# Altium footprint library Tranzistor.PcbLib: 241 footprints (part 8 of 16)
Each footprint in its own frame and in the unit in brackets; x right, y up, seen from the top. Pads: shape width x height; smd on the part's side, far side on the other; paste and mask are expansions set on the pad; w line width, h text height; cw(c..) or ccw(c..) is an arc to the next point about the centre after c.
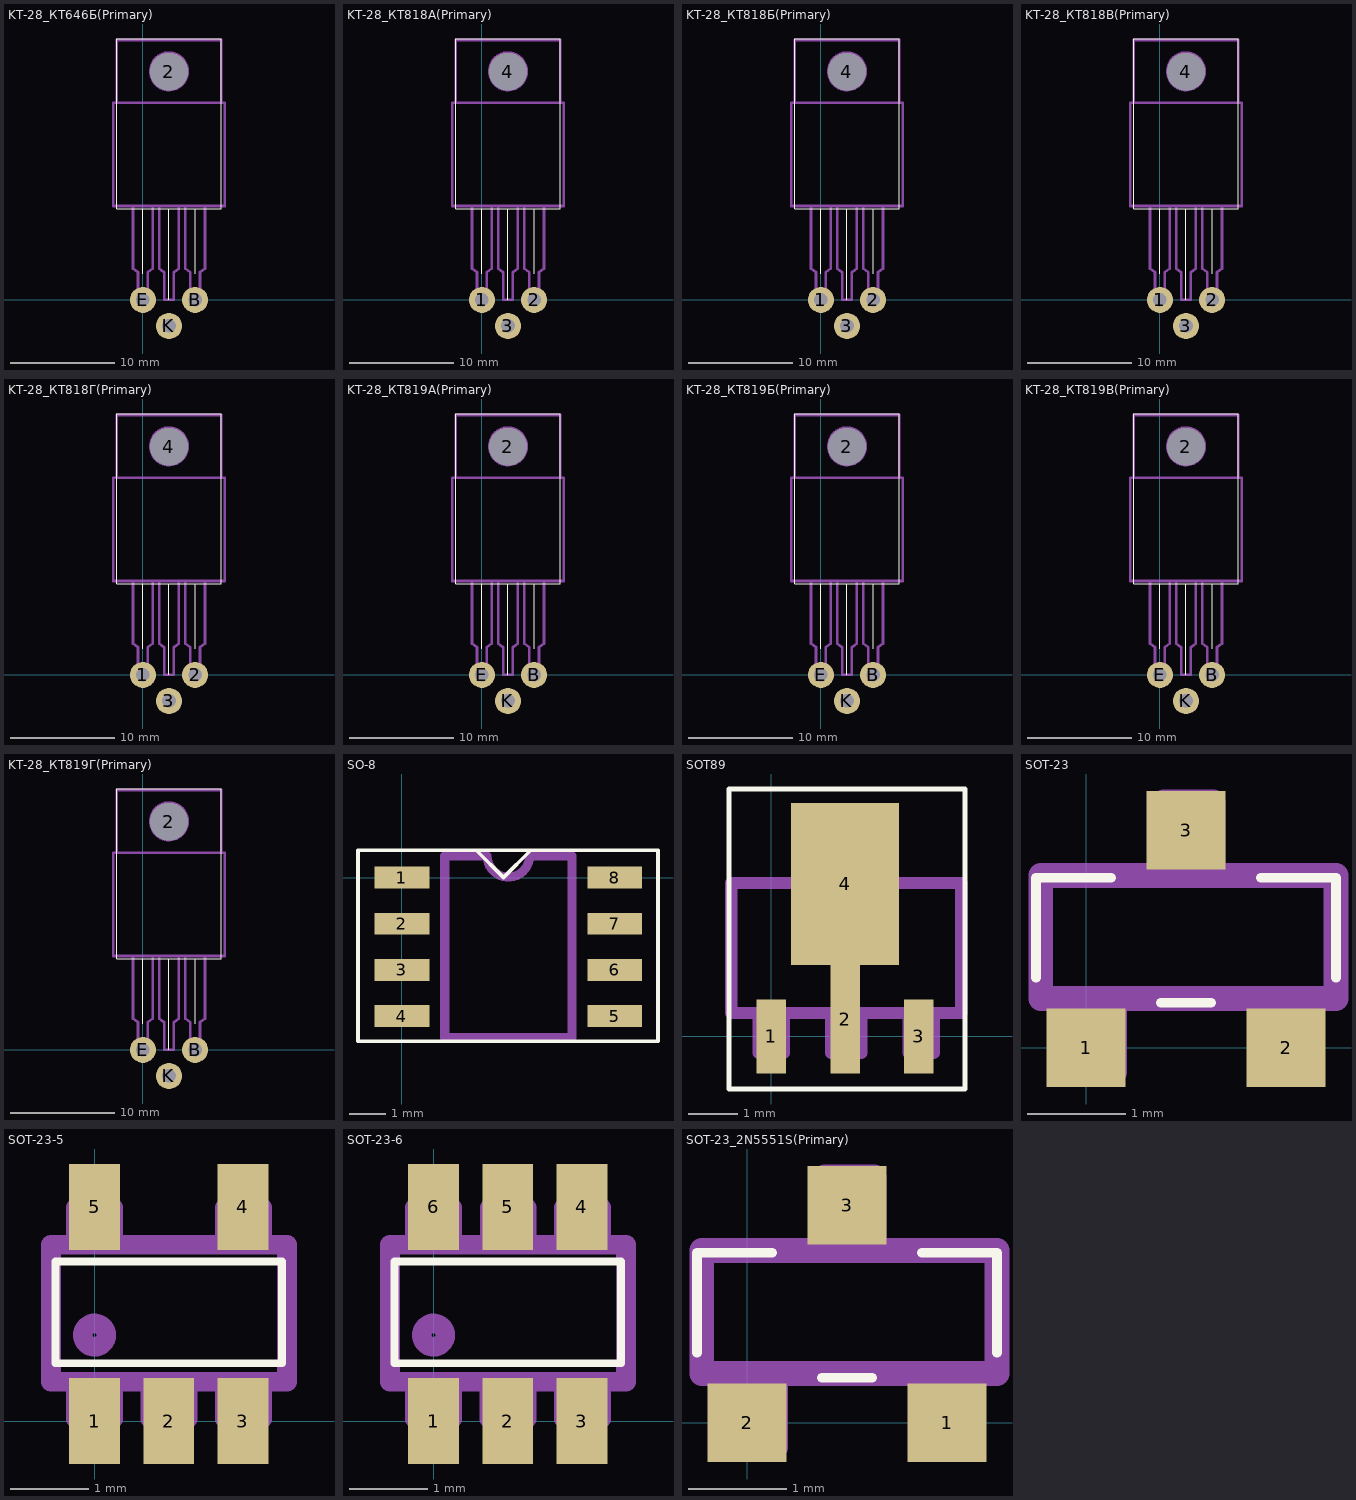
[diagram p7: the footprints below, top view; thin cyan lines are the x and y axes]

## KT-28_КТ646Б(Primary) [mm]
pads (4):
  round 3.6 hole 3.6 unplated: 2(2.5,21.875)
  round 2.5 hole 1.3: B(5,0) E(0,0) K(2.5,-2.5)
Top Overlay:
  lines w0.1: 0,2.5 0,8.75 ; 2.5,0 2.5,8.75 ; 5,2.5 5,8.75 ; -2.5,8.75 7.5,8.75 7.5,25 -2.5,25 -2.5,8.75
Mechanical 1:
  circle w0.25: c2.5,21.9 r1.8
  lines w0.25: -0.95,9 -0.95,3 -0.47,2.651 -0.47,0 0,0 0.47,0 0.47,2.651 0.95,3 0.95,9 ; 1.55,9 1.55,3 2.03,2.651 2.03,0 2.5,0 2.97,0 2.97,2.651 3.45,3 3.45,9 ; 4.05,9 4.05,3 4.53,2.651 4.53,0 5,0 5.47,0 5.47,2.651 5.95,3 5.95,9 ; -2.5,18.9 7.5,18.9 ; -2.5,18.9 -2.5,24.9 2.5,24.9 7.5,24.9 7.5,18.9 ; -2.5,18.9 -2.85,18.9 -2.85,9 2.5,9 7.85,9 7.85,18.9 7.5,18.9
  text "К" at 2.25,9.25 h1.5
  text "Б" at 4.75,9.25 h1.5
  text "Э" at -0.5,9.25 h1.5

## KT-28_КТ818А(Primary) [mm]
pads (4):
  round 2.5 hole 1.3: 1(0,0) 2(5,0) 3(2.5,-2.5)
  round 3.6 hole 3.6 unplated: 4(2.5,21.875)
Top Overlay:
  lines w0.1: 0,2.5 0,8.75 ; 2.5,0 2.5,8.75 ; 5,2.5 5,8.75 ; -2.5,8.75 7.5,8.75 7.5,25 -2.5,25 -2.5,8.75
Mechanical 1:
  circle w0.25: c2.5,21.9 r1.8
  lines w0.25: -0.95,9 -0.95,3 -0.47,2.651 -0.47,0 0,0 0.47,0 0.47,2.651 0.95,3 0.95,9 ; 1.55,9 1.55,3 2.03,2.651 2.03,0 2.5,0 2.97,0 2.97,2.651 3.45,3 3.45,9 ; 4.05,9 4.05,3 4.53,2.651 4.53,0 5,0 5.47,0 5.47,2.651 5.95,3 5.95,9 ; -2.5,18.9 7.5,18.9 ; -2.5,18.9 -2.5,24.9 2.5,24.9 7.5,24.9 7.5,18.9 ; -2.5,18.9 -2.85,18.9 -2.85,9 2.5,9 7.85,9 7.85,18.9 7.5,18.9
  text "К" at 2.25,9.25 h1.5
  text "Б" at 4.75,9.25 h1.5
  text "Э" at -0.5,9.25 h1.5

## KT-28_КТ818Б(Primary) [mm]
pads (4):
  round 2.5 hole 1.3: 1(0,0) 2(5,0) 3(2.5,-2.5)
  round 3.6 hole 3.6 unplated: 4(2.5,21.875)
Top Overlay:
  lines w0.1: 0,2.5 0,8.75 ; 2.5,0 2.5,8.75 ; 5,2.5 5,8.75 ; -2.5,8.75 7.5,8.75 7.5,25 -2.5,25 -2.5,8.75
Mechanical 1:
  circle w0.25: c2.5,21.9 r1.8
  lines w0.25: -0.95,9 -0.95,3 -0.47,2.651 -0.47,0 0,0 0.47,0 0.47,2.651 0.95,3 0.95,9 ; 1.55,9 1.55,3 2.03,2.651 2.03,0 2.5,0 2.97,0 2.97,2.651 3.45,3 3.45,9 ; 4.05,9 4.05,3 4.53,2.651 4.53,0 5,0 5.47,0 5.47,2.651 5.95,3 5.95,9 ; -2.5,18.9 7.5,18.9 ; -2.5,18.9 -2.5,24.9 2.5,24.9 7.5,24.9 7.5,18.9 ; -2.5,18.9 -2.85,18.9 -2.85,9 2.5,9 7.85,9 7.85,18.9 7.5,18.9
  text "К" at 2.25,9.25 h1.5
  text "Б" at 4.75,9.25 h1.5
  text "Э" at -0.5,9.25 h1.5

## KT-28_КТ818В(Primary) [mm]
pads (4):
  round 2.5 hole 1.3: 1(0,0) 2(5,0) 3(2.5,-2.5)
  round 3.6 hole 3.6 unplated: 4(2.5,21.875)
Top Overlay:
  lines w0.1: 0,2.5 0,8.75 ; 2.5,0 2.5,8.75 ; 5,2.5 5,8.75 ; -2.5,8.75 7.5,8.75 7.5,25 -2.5,25 -2.5,8.75
Mechanical 1:
  circle w0.25: c2.5,21.9 r1.8
  lines w0.25: -0.95,9 -0.95,3 -0.47,2.651 -0.47,0 0,0 0.47,0 0.47,2.651 0.95,3 0.95,9 ; 1.55,9 1.55,3 2.03,2.651 2.03,0 2.5,0 2.97,0 2.97,2.651 3.45,3 3.45,9 ; 4.05,9 4.05,3 4.53,2.651 4.53,0 5,0 5.47,0 5.47,2.651 5.95,3 5.95,9 ; -2.5,18.9 7.5,18.9 ; -2.5,18.9 -2.5,24.9 2.5,24.9 7.5,24.9 7.5,18.9 ; -2.5,18.9 -2.85,18.9 -2.85,9 2.5,9 7.85,9 7.85,18.9 7.5,18.9
  text "К" at 2.25,9.25 h1.5
  text "Б" at 4.75,9.25 h1.5
  text "Э" at -0.5,9.25 h1.5

## KT-28_КТ818Г(Primary) [mm]
pads (4):
  round 2.5 hole 1.3: 1(0,0) 2(5,0) 3(2.5,-2.5)
  round 3.6 hole 3.6 unplated: 4(2.5,21.875)
Top Overlay:
  lines w0.1: 0,2.5 0,8.75 ; 2.5,0 2.5,8.75 ; 5,2.5 5,8.75 ; -2.5,8.75 7.5,8.75 7.5,25 -2.5,25 -2.5,8.75
Mechanical 1:
  circle w0.25: c2.5,21.9 r1.8
  lines w0.25: -0.95,9 -0.95,3 -0.47,2.651 -0.47,0 0,0 0.47,0 0.47,2.651 0.95,3 0.95,9 ; 1.55,9 1.55,3 2.03,2.651 2.03,0 2.5,0 2.97,0 2.97,2.651 3.45,3 3.45,9 ; 4.05,9 4.05,3 4.53,2.651 4.53,0 5,0 5.47,0 5.47,2.651 5.95,3 5.95,9 ; -2.5,18.9 7.5,18.9 ; -2.5,18.9 -2.5,24.9 2.5,24.9 7.5,24.9 7.5,18.9 ; -2.5,18.9 -2.85,18.9 -2.85,9 2.5,9 7.85,9 7.85,18.9 7.5,18.9
  text "К" at 2.25,9.25 h1.5
  text "Б" at 4.75,9.25 h1.5
  text "Э" at -0.5,9.25 h1.5

## KT-28_КТ819А(Primary) [mm]
pads (4):
  round 3.6 hole 3.6 unplated: 2(2.5,21.875)
  round 2.5 hole 1.3: B(5,0) E(0,0) K(2.5,-2.5)
Top Overlay:
  lines w0.1: 0,2.5 0,8.75 ; 2.5,0 2.5,8.75 ; 5,2.5 5,8.75 ; -2.5,8.75 7.5,8.75 7.5,25 -2.5,25 -2.5,8.75
Mechanical 1:
  circle w0.25: c2.5,21.9 r1.8
  lines w0.25: -0.95,9 -0.95,3 -0.47,2.651 -0.47,0 0,0 0.47,0 0.47,2.651 0.95,3 0.95,9 ; 1.55,9 1.55,3 2.03,2.651 2.03,0 2.5,0 2.97,0 2.97,2.651 3.45,3 3.45,9 ; 4.05,9 4.05,3 4.53,2.651 4.53,0 5,0 5.47,0 5.47,2.651 5.95,3 5.95,9 ; -2.5,18.9 7.5,18.9 ; -2.5,18.9 -2.5,24.9 2.5,24.9 7.5,24.9 7.5,18.9 ; -2.5,18.9 -2.85,18.9 -2.85,9 2.5,9 7.85,9 7.85,18.9 7.5,18.9
  text "К" at 2.25,9.25 h1.5
  text "Б" at 4.75,9.25 h1.5
  text "Э" at -0.5,9.25 h1.5

## KT-28_КТ819Б(Primary) [mm]
pads (4):
  round 3.6 hole 3.6 unplated: 2(2.5,21.875)
  round 2.5 hole 1.3: B(5,0) E(0,0) K(2.5,-2.5)
Top Overlay:
  lines w0.1: 0,2.5 0,8.75 ; 2.5,0 2.5,8.75 ; 5,2.5 5,8.75 ; -2.5,8.75 7.5,8.75 7.5,25 -2.5,25 -2.5,8.75
Mechanical 1:
  circle w0.25: c2.5,21.9 r1.8
  lines w0.25: -0.95,9 -0.95,3 -0.47,2.651 -0.47,0 0,0 0.47,0 0.47,2.651 0.95,3 0.95,9 ; 1.55,9 1.55,3 2.03,2.651 2.03,0 2.5,0 2.97,0 2.97,2.651 3.45,3 3.45,9 ; 4.05,9 4.05,3 4.53,2.651 4.53,0 5,0 5.47,0 5.47,2.651 5.95,3 5.95,9 ; -2.5,18.9 7.5,18.9 ; -2.5,18.9 -2.5,24.9 2.5,24.9 7.5,24.9 7.5,18.9 ; -2.5,18.9 -2.85,18.9 -2.85,9 2.5,9 7.85,9 7.85,18.9 7.5,18.9
  text "К" at 2.25,9.25 h1.5
  text "Б" at 4.75,9.25 h1.5
  text "Э" at -0.5,9.25 h1.5

## KT-28_КТ819В(Primary) [mm]
pads (4):
  round 3.6 hole 3.6 unplated: 2(2.5,21.875)
  round 2.5 hole 1.3: B(5,0) E(0,0) K(2.5,-2.5)
Top Overlay:
  lines w0.1: 0,2.5 0,8.75 ; 2.5,0 2.5,8.75 ; 5,2.5 5,8.75 ; -2.5,8.75 7.5,8.75 7.5,25 -2.5,25 -2.5,8.75
Mechanical 1:
  circle w0.25: c2.5,21.9 r1.8
  lines w0.25: -0.95,9 -0.95,3 -0.47,2.651 -0.47,0 0,0 0.47,0 0.47,2.651 0.95,3 0.95,9 ; 1.55,9 1.55,3 2.03,2.651 2.03,0 2.5,0 2.97,0 2.97,2.651 3.45,3 3.45,9 ; 4.05,9 4.05,3 4.53,2.651 4.53,0 5,0 5.47,0 5.47,2.651 5.95,3 5.95,9 ; -2.5,18.9 7.5,18.9 ; -2.5,18.9 -2.5,24.9 2.5,24.9 7.5,24.9 7.5,18.9 ; -2.5,18.9 -2.85,18.9 -2.85,9 2.5,9 7.85,9 7.85,18.9 7.5,18.9
  text "К" at 2.25,9.25 h1.5
  text "Б" at 4.75,9.25 h1.5
  text "Э" at -0.5,9.25 h1.5

## KT-28_КТ819Г(Primary) [mm]
pads (4):
  round 3.6 hole 3.6 unplated: 2(2.5,21.875)
  round 2.5 hole 1.3: B(5,0) E(0,0) K(2.5,-2.5)
Top Overlay:
  lines w0.1: 0,2.5 0,8.75 ; 2.5,0 2.5,8.75 ; 5,2.5 5,8.75 ; -2.5,8.75 7.5,8.75 7.5,25 -2.5,25 -2.5,8.75
Mechanical 1:
  circle w0.25: c2.5,21.9 r1.8
  lines w0.25: -0.95,9 -0.95,3 -0.47,2.651 -0.47,0 0,0 0.47,0 0.47,2.651 0.95,3 0.95,9 ; 1.55,9 1.55,3 2.03,2.651 2.03,0 2.5,0 2.97,0 2.97,2.651 3.45,3 3.45,9 ; 4.05,9 4.05,3 4.53,2.651 4.53,0 5,0 5.47,0 5.47,2.651 5.95,3 5.95,9 ; -2.5,18.9 7.5,18.9 ; -2.5,18.9 -2.5,24.9 2.5,24.9 7.5,24.9 7.5,18.9 ; -2.5,18.9 -2.85,18.9 -2.85,9 2.5,9 7.85,9 7.85,18.9 7.5,18.9
  text "К" at 2.25,9.25 h1.5
  text "Б" at 4.75,9.25 h1.5
  text "Э" at -0.5,9.25 h1.5

## PCBComponent_1 [mm]

## SO-8 [mm]
pads (8):
  rect 1.5x0.6 smd: 1(0,0) 2(0,-1.27) 3(0,-2.54) 4(0,-3.81) 5(5.85,-3.81) 6(5.85,-2.54) 7(5.85,-1.27) 8(5.85,0)
Top Overlay:
  lines w0.1: 2.04,0.75 2.79,0 3.54,0.75 ; -1.21,-4.5 7.04,-4.5 7.04,0.75 -1.21,0.75 -1.21,-4.5
Mechanical 1:
  lines w0.25: 1.175,-4.405 4.675,-4.405 4.675,0.595 3.508,0.595 cw(c2.925,0.595) 2.342,0.595 1.175,0.595 1.175,-4.405

## SOT89 [mm]
pads (4):
  rect 0.6x1.5 smd: 1(0,0) 3(3,0)
  rect 0.6x2.2 smd: 2(1.5,0.35)
  rect 2.2x3.3 smd: 4(1.5,3.1)
Top Overlay:
  lines w0.1: -0.86,-1.07 3.94,-1.07 3.94,5.03 -0.86,5.03 -0.86,-1.07
Mechanical 1:
  lines w0.25: -0.254,0.476 -0.254,-0.336 0,-0.336 0.254,-0.336 0.254,0.476 ; 0.61,3.118 0.61,3.931 2.438,3.931 2.438,3.118 ; 1.219,0.476 1.219,-0.336 1.524,-0.336 1.829,-0.336 1.829,0.476 ; 2.794,0.476 2.794,-0.336 3.048,-0.336 3.302,-0.336 3.302,0.476 ; -0.813,0.476 3.861,0.476 3.861,3.118 -0.813,3.118 -0.813,0.476

## SOT-23 [mm]
pads (3):
  rect 0.8x0.8 smd: 1(0,0) 2(2.032,0) 3(1.016,2.21)
Top Overlay:
  lines w0.1: -0.508,0.711 -0.508,1.727 0.254,1.727 ; 0.762,0.457 1.27,0.457 ; 1.778,1.727 2.54,1.727 2.54,0.711
Mechanical 1:
  lines w0.25: -0.21,0.5 -0.21,-0.25 0.29,-0.25 0.29,0.5 ; 0.79,1.75 0.79,2.5 1.29,2.5 1.29,1.75 ; 1.79,0.5 1.79,-0.25 2.29,-0.25 2.29,0.5 ; -0.46,0.5 2.54,0.5 2.54,1.75 -0.46,1.75 -0.46,0.5

## SOT-23-5 [mm]
pads (5):
  rect 0.65x1.1 smd: 1(0,0) 2(0.95,0) 3(1.9,0) 4(1.9,2.74) 5(0,2.74)
Top Overlay:
  lines w0.1: -0.5,0.74 2.4,0.74 2.4,2.04 -0.5,2.04 -0.5,0.74
Mechanical 1:
  circle w0.25: c0,1.1 r0.15
  lines w0.25: -0.239,0.505 -0.239,0.028 0.238,0.028 0.238,0.505 ; -0.239,2.254 -0.239,2.731 0.238,2.731 0.238,2.254 ; 0.715,0.505 0.715,0.028 1.192,0.028 1.192,0.505 ; 1.669,0.505 1.669,0.028 2.146,0.028 2.146,0.346 2.146,0.505 ; 1.669,2.254 1.669,2.731 2.146,2.731 2.146,2.254 ; -0.557,0.505 2.464,0.505 2.464,2.254 -0.557,2.254 -0.557,0.505

## SOT-23-6 [mm]
pads (6):
  rect 0.65x1.1 smd: 1(0,0) 2(0.95,0) 3(1.9,0) 4(1.9,2.74) 5(0.95,2.74) 6(0,2.74)
Top Overlay:
  lines w0.1: -0.5,0.74 2.4,0.74 2.4,2.04 -0.5,2.04 -0.5,0.74
Mechanical 1:
  circle w0.25: c0,1.1 r0.15
  lines w0.25: -0.239,0.505 -0.239,0.028 0.238,0.028 0.238,0.505 ; -0.239,2.254 -0.239,2.731 0.238,2.731 0.238,2.254 ; 0.715,0.505 0.715,0.028 1.192,0.028 1.192,0.505 ; 0.719,2.254 0.719,2.731 1.196,2.731 1.196,2.254 ; 1.669,0.505 1.669,0.028 2.146,0.028 2.146,0.346 2.146,0.505 ; 1.669,2.254 1.669,2.731 2.146,2.731 2.146,2.254 ; -0.557,0.505 2.464,0.505 2.464,2.254 -0.557,2.254 -0.557,0.505

## SOT-23_2N5551S(Primary) [mm]
pads (3):
  rect 0.8x0.8 smd: 1(2.032,0) 2(0,0) 3(1.016,2.21)
Top Overlay:
  lines w0.1: -0.508,0.711 -0.508,1.727 0.254,1.727 ; 0.762,0.457 1.27,0.457 ; 1.778,1.727 2.54,1.727 2.54,0.711
Mechanical 1:
  lines w0.25: -0.21,0.5 -0.21,-0.25 0.29,-0.25 0.29,0.5 ; 0.79,1.75 0.79,2.5 1.29,2.5 1.29,1.75 ; 1.79,0.5 1.79,-0.25 2.29,-0.25 2.29,0.5 ; -0.46,0.5 2.54,0.5 2.54,1.75 -0.46,1.75 -0.46,0.5